# Altium schematic symbol library Generic Devices.SchLib: 13 symbols
Pins are listed as number, name and electrical type; pins without a type are passive.

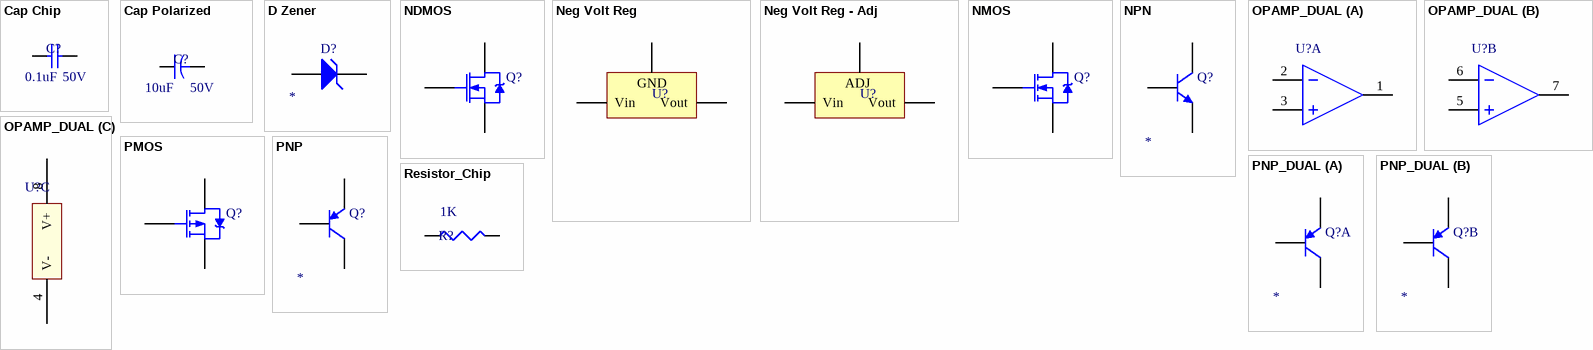
[diagram p0: symbols Cap Chip to Resistor_Chip]

## Cap Chip
designator C?  value 0.1uF  Voltage: 50V
Capacitor; Part Number: *; Current: *; Power: *; 1k Price: *
simulation model CAP (Capacitor)
signal-integrity model Cap
footprint C0402 (Chip Capacitor, 2-Leads, 0402, IPC Medium Density)
footprint C0603 (Chip Capacitor, 2-Leads, 0603, IPC Medium Density)
footprint C0805 (Chip Capacitor, 2-Leads, 0805, IPC Medium Density)
footprint C1206 (Chip Capacitor, 2-Leads, 1206, IPC Medium Density)
footprint C1210 (Chip Capacitor, 2-Leads, C1210, IPC Medium Density)
footprint C1812 (Chip Capacitor, 2-Leads, 1812, IPC Medium Density)
footprint C2220 (Chip Capacitor, 2-Leads, 2220, IPC Medium Density)
pins: 1, 2

## Cap Polarized
designator C?  value 10uF  Voltage: 50V
Capacitor; Part Number: *; Current: *; Power: *; 1k Price: *
simulation model CAP (Capacitor)
signal-integrity model Cap
footprint CAP-5X11-2 (Capacitor; 5mm x 11mm; 2mm pitch)
footprint CAP-6.3X11-2.5 (Capacitor; 6.3mm x 11mm; 2.5mm pitch)
pins: 1, 2

## D Zener
designator D?
Zener Diode; Power: *; Voltage: *; 1k Price: *; Value: *; Current: *; Part Number: *
simulation model ZENER (Diode)
signal-integrity model D Zener
footprint SOD123 (Molded, 2-Leads, Body 2.65x1.55mm)
pins: 1 K, 2 A

## NDMOS
designator Q?
N-Channel Depletion MOSFET; Part Number: *; Voltage: *; Current: *; Value: *; Power: *; 1k Price: *
simulation model IRF1010 (Spice Subcircuit)
footprint SOT-23-3 (SOT23, 3-Leads, Body 2.92x2.37mm, Pitch 0.95mm, IPC Medium Density); pin to pad D>2 G>1 S>3
pins: D, G, S

## Neg Volt Reg
designator U?
Negative Voltage Regulator; Part Number: *; Voltage: *; Value: *; Current: *; Power: *; 1k Price: *
footprint TO-220AB (TO, Thru-Hole, Vertical, Heatsink Mounted; 3 In-Line Leads; Pitch 2.54 mm)
footprint TO-263 (D2-PAK, 3-Pads, Body 7.93x8.57mm (max), IPC Medium Density); pin to pad GND>1 Vin>4 Vout>3
pins: GND, Vin, Vout

## Neg Volt Reg - Adj
designator U?
Negative Voltage Regulator; Part Number: *; Voltage: *; Value: *; Current: *; Power: *; 1k Price: *
footprint TO-220AB (TO, Thru-Hole, Vertical, Heatsink Mounted; 3 In-Line Leads; Pitch 2.54 mm)
footprint TO-263 (D2-PAK, 3-Pads, Body 7.93x8.57mm (max), IPC Medium Density); pin to pad GND>1 Vin>4 Vout>3
pins: GND, Vin, Vout
text: ADJ

## NMOS
designator Q?
N-Channel MOSFET; Part Number: *; Voltage: *; Current: *; Value: *; Power: *; 1k Price: *
footprint TO-220AB (TO, Thru-Hole, Vertical, Heatsink Mounted; 3 In-Line Leads; Pitch 2.54 mm)
simulation model IRF1010 (Spice Subcircuit)
footprint TO-263 (D2-PAK, 3-Pads, Body 7.93x8.57mm (max), IPC Medium Density); pin to pad D>4 G>1 S>3
pins: D, G, S

## NPN
designator Q?
NPN Bipolar Transistor; Value: *; Voltage: *; Power: *; 1k Price: *; Current: *; Part Number: *
simulation model NPN
signal-integrity model NPN
footprint SOT323; pin to pad B>1 C>3 E>2
footprint SOT-23-3 (SOT23, 3-Leads, Body 2.92x2.37mm, Pitch 0.95mm, IPC Medium Density); pin to pad B>1 C>3 E>2
pins: B, C, E

## OPAMP_DUAL
designator U?
Dual Operational Amplifier; Value: *; Voltage: *; 1k Price: *; Current: *; Power: *; Part Number: *
footprint SO8 (SOIC, 8-Leads, Body 5x4mm, Pitch 1.27mm, IPC High Density)
part A pins: 1 1OUT, 2 1IN-, 3 1IN+
part B pins: 5 2IN+, 6 2IN-, 7 2OUT
part C pins: 4 V-, 8 V+

## PMOS
designator Q?
P-Channel MOSFET; Part Number: *; 1k Price: *; Voltage: *; Value: *; Current: *; Power: *
footprint TO-220AB (TO, Thru-Hole, Vertical, Heatsink Mounted; 3 In-Line Leads; Pitch 2.54 mm)
simulation model IRF9510 (Spice Subcircuit)
footprint TO-263 (D2-PAK, 3-Pads, Body 7.93x8.57mm (max), IPC Medium Density); pin to pad D>4 G>1 S>3
pins: D, G, S

## PNP
designator Q?
PNP Bipolar Transistor; 1K Price: *; Voltage: *; Value: *; Current: *; Power: *; Part Number: *
simulation model PNP
signal-integrity model PNP
footprint SOT223 (SOT223, 4-Leads, Body 6.50x7.00mm (avg), Pitch 2.30mm, IPC Medium Density); pin to pad B>1 C>2+4 E>3
footprint SOT323; pin to pad B>1 C>3 E>2
pins: B, C, E

## PNP_DUAL
designator Q?
PNP Bipolar Transistor; 1K Price: *; Voltage: *; Value: *; Current: *; Power: *; Part Number: *
simulation model PNP
signal-integrity model PNP
footprint SOT457 (SOT23, 6-Leads, Body 2.90x2.75mm, Pitch 0.95mm, IPC Medium Density); pin to pad B1>1 B2>2 C1>6 C2>3 E1>5 E2>4
part A pins: B1, C1, E1
part B pins: B2, C2, E2

## Resistor_Chip
designator R?  value 1K
Resistor; Part Number: *; 1K Price: *; Voltage: *; Power: *; Parameter 1: *
simulation model RESISTOR (Resistor)
signal-integrity model Res
footprint R0402 (Chip Resistor, 2-Leads, 0402, IPC Medium Density)
footprint R0603 (Chip Resistor, 2-Leads, 0603, IPC Medium Density)
footprint R0805 (Chip Resistor, 2-Leads, 0805, IPC Medium Density)
footprint R1206 (Chip Resistor, 2-Leads, 1206, IPC Medium Density)
footprint R1210 (Chip Resistor, 2-Leads, 1210, IPC Medium Density)
footprint R1218 (Chip Resistor, 2-Leads, 1218, IPC Medium Density)
footprint R2010 (Chip Resistor, 2-Leads, 2010, IPC Medium Density)
footprint R2512 (Chip Resistor, 2-Leads, 2512, IPC Medium Density)
pins: 1, 2